# EAGLE library part S1D13700 (library LCD_controllers)
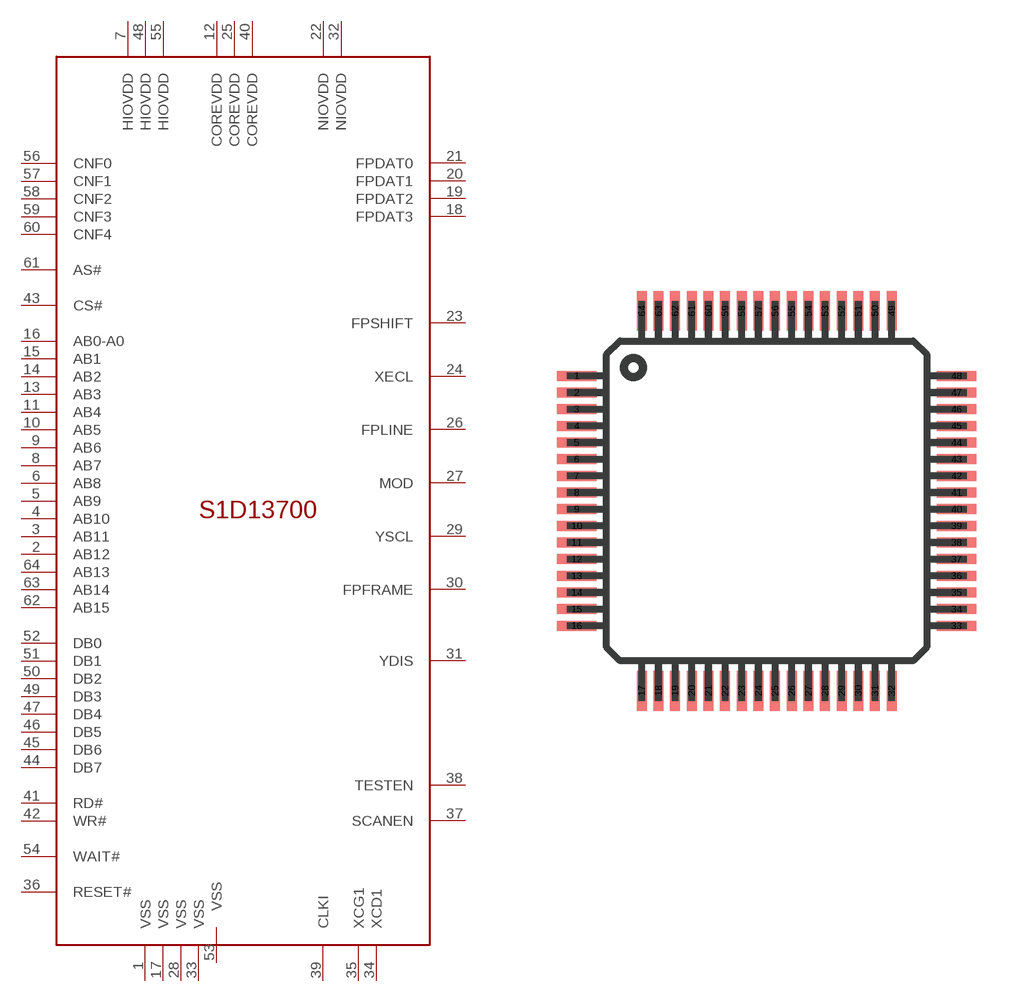
[diagram p0: symbol with the pads of TQFP-64; footprint TQFP-64]

Designator prefix -

## S1D13700  [TQFP-64]
1  VSS
2  AB12
3  AB11
4  AB10
5  AB9
6  AB8
7  HIOVDD
8  AB7
9  AB6
10  AB5
11  AB4
12  COREVDD
13  AB3
14  AB2
15  AB1
16  AB0-A0
17  VSS
18  FPDAT3
19  FPDAT2
20  FPDAT1
21  FPDAT0
22  NIOVDD
23  FPSHIFT
24  XECL
25  COREVDD
26  FPLINE
27  MOD
28  VSS
29  YSCL
30  FPFRAME
31  YDIS
32  NIOVDD
33  VSS
34  XCD1
35  XCG1
36  RESET#
37  SCANEN
38  TESTEN
39  CLKI
40  COREVDD
41  RD#
42  WR#
43  CS#
44  DB7
45  DB6
46  DB5
47  DB4
48  HIOVDD
49  DB3
50  DB2
51  DB1
52  DB0
53  VSS
54  WAIT#
55  HIOVDD
56  CNF0
57  CNF1
58  CNF2
59  CNF3
60  CNF4
61  AS#
62  AB15
63  AB14
64  AB13

## Footprint TQFP-64 (pad centres in mm)
smd 1.2 x 0.3: 1 -5.89,3.7; 2 -5.89,3.2; 3 -5.89,2.7; 4 -5.89,2.2; 5 -5.89,1.7; 6 -5.89,1.2; 7 -5.89,0.7; 8 -5.89,0.2; 9 -5.89,-0.3; 10 -5.89,-0.8; 11 -5.89,-1.3; 12 -5.89,-1.8; 13 -5.89,-2.3; 14 -5.89,-2.8; 15 -5.89,-3.3; 16 -5.89,-3.8; 33 5.51,-3.8; 34 5.51,-3.3; 35 5.51,-2.8; 36 5.51,-2.3; 37 5.51,-1.8; 38 5.51,-1.3; 39 5.51,-0.8; 40 5.51,-0.3; 41 5.51,0.2; 42 5.51,0.7; 43 5.51,1.2; 44 5.51,1.7; 45 5.51,2.2; 46 5.51,2.7; 47 5.51,3.2; 48 5.51,3.7
smd 0.3 x 1.2: 17 -3.94,-5.75; 18 -3.44,-5.75; 19 -2.94,-5.75; 20 -2.44,-5.75; 21 -1.94,-5.75; 22 -1.44,-5.75; 23 -0.94,-5.75; 24 -0.44,-5.75; 25 0.06,-5.75; 26 0.56,-5.75; 27 1.06,-5.75; 28 1.56,-5.75; 29 2.06,-5.75; 30 2.56,-5.75; 31 3.06,-5.75; 32 3.56,-5.75; 49 3.56,5.65; 50 3.06,5.65; 51 2.56,5.65; 52 2.06,5.65; 53 1.56,5.65; 54 1.06,5.65; 55 0.56,5.65; 56 0.06,5.65; 57 -0.44,5.65; 58 -0.94,5.65; 59 -1.44,5.65; 60 -1.94,5.65; 61 -2.44,5.65; 62 -2.94,5.65; 63 -3.44,5.65; 64 -3.94,5.65